# Altium footprint library Passives.PcbLib: 35 footprints (part 3 of 3)
Each footprint in its own frame and in the unit in brackets; x right, y up, seen from the top. Pads: shape width x height; smd on the part's side, far side on the other; paste and mask are expansions set on the pad; w line width, h text height; cw(c..) or ccw(c..) is an arc to the next point about the centre after c.
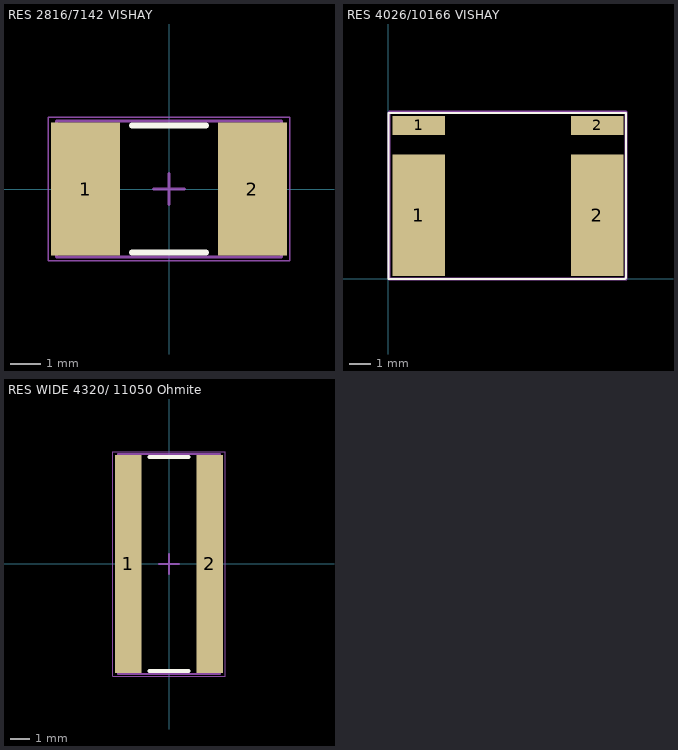
[diagram p2: the footprints below, top view; thin cyan lines are the x and y axes]

## RES 2816/7142 VISHAY [mm] "Chip Resistor, 2-Leads, Body 7.10x4.20mm, IPC High Density"
height 0.89
pads (2):
  rect 2.25x4.35 smd: 1(-2.725,0) 2(2.725,0)
Top Overlay:
  lines w0.2: -1.2,-2.075 1.2,-2.075 ; -1.2,2.075 1.2,2.075
Mechanical 13:
  lines w0.1: -3.675,-2.225 -3.675,2.225 3.675,2.225 3.675,-2.225 -3.675,-2.225
Mechanical 15:
  lines w0.05: -3.95,-2.35 -3.95,2.35 3.95,2.35 3.95,-2.35 -3.95,-2.35
  lines w0.1: -0.5,0 0.5,0 ; 0,-0.5 0,0.5
  text "'.Designator'" at -1.397,0 h1
3D body: height 0.89, standoff 0, extent -2.105,-2.225 2.105,2.225
3D body: height 0.89, standoff 0, extent -3.675,-2.225 -2.105,2.225
3D body: height 0.89, standoff 0, extent 2.105,-2.225 3.675,2.225

## RES 4026/10166 VISHAY [mm]
pads (4):
  rect 2.44x5.6 smd: 1(1.396,2.941) 2(9.628,2.941)
  rect 2.44x0.89 smd: 1(1.396,7.074) 2(9.628,7.072)
Top Overlay:
  lines w0.1: 0,0 10.904,0 10.952,0.048 10.952,7.638 10.938,7.652 0.02,7.652 0,7.632 0,7.1 0,0
Mechanical 15:
  lines w0.15: 0.02,7.652 0.02,-0.01 10.948,-0.01 10.951,-0.007 10.951,7.666 10.939,7.678 0.046,7.678
  text "'.Designator'" at 2.921,3.466 h1

## RES WIDE 4320/ 11050 Ohmite [mm] "Chip Resistor, 2-Leads, Body 5.00x11.00mm, IPC High Density"
height 0.7
pads (2):
  rect 1.35x11.1 smd: 1(-2.075,0) 2(2.075,0)
Top Overlay:
  lines w0.2: -1,-5.45 1,-5.45 ; -1,5.45 1,5.45
Mechanical 13:
  lines w0.1: -2.6,-5.6 -2.6,5.6 2.6,5.6 2.6,-5.6 -2.6,-5.6
Mechanical 15:
  lines w0.05: -2.85,-5.7 -2.85,5.7 2.85,5.7 2.85,-5.7 -2.85,-5.7
  lines w0.1: -0.5,0 0.5,0 ; 0,-0.5 0,0.5
  text "'.Designator'" at -1.27,-0.127 h1
3D body: height 0.7, standoff 0, extent -1.8,-5.6 1.8,5.6
3D body: height 0.7, standoff 0, extent -2.6,-5.6 -1.8,5.6
3D body: height 0.7, standoff 0, extent 1.8,-5.6 2.6,5.6